# Altium schematic symbol library Other.SchLib: 33 symbols
Pins are listed as number, name and electrical type; pins without a type are passive.

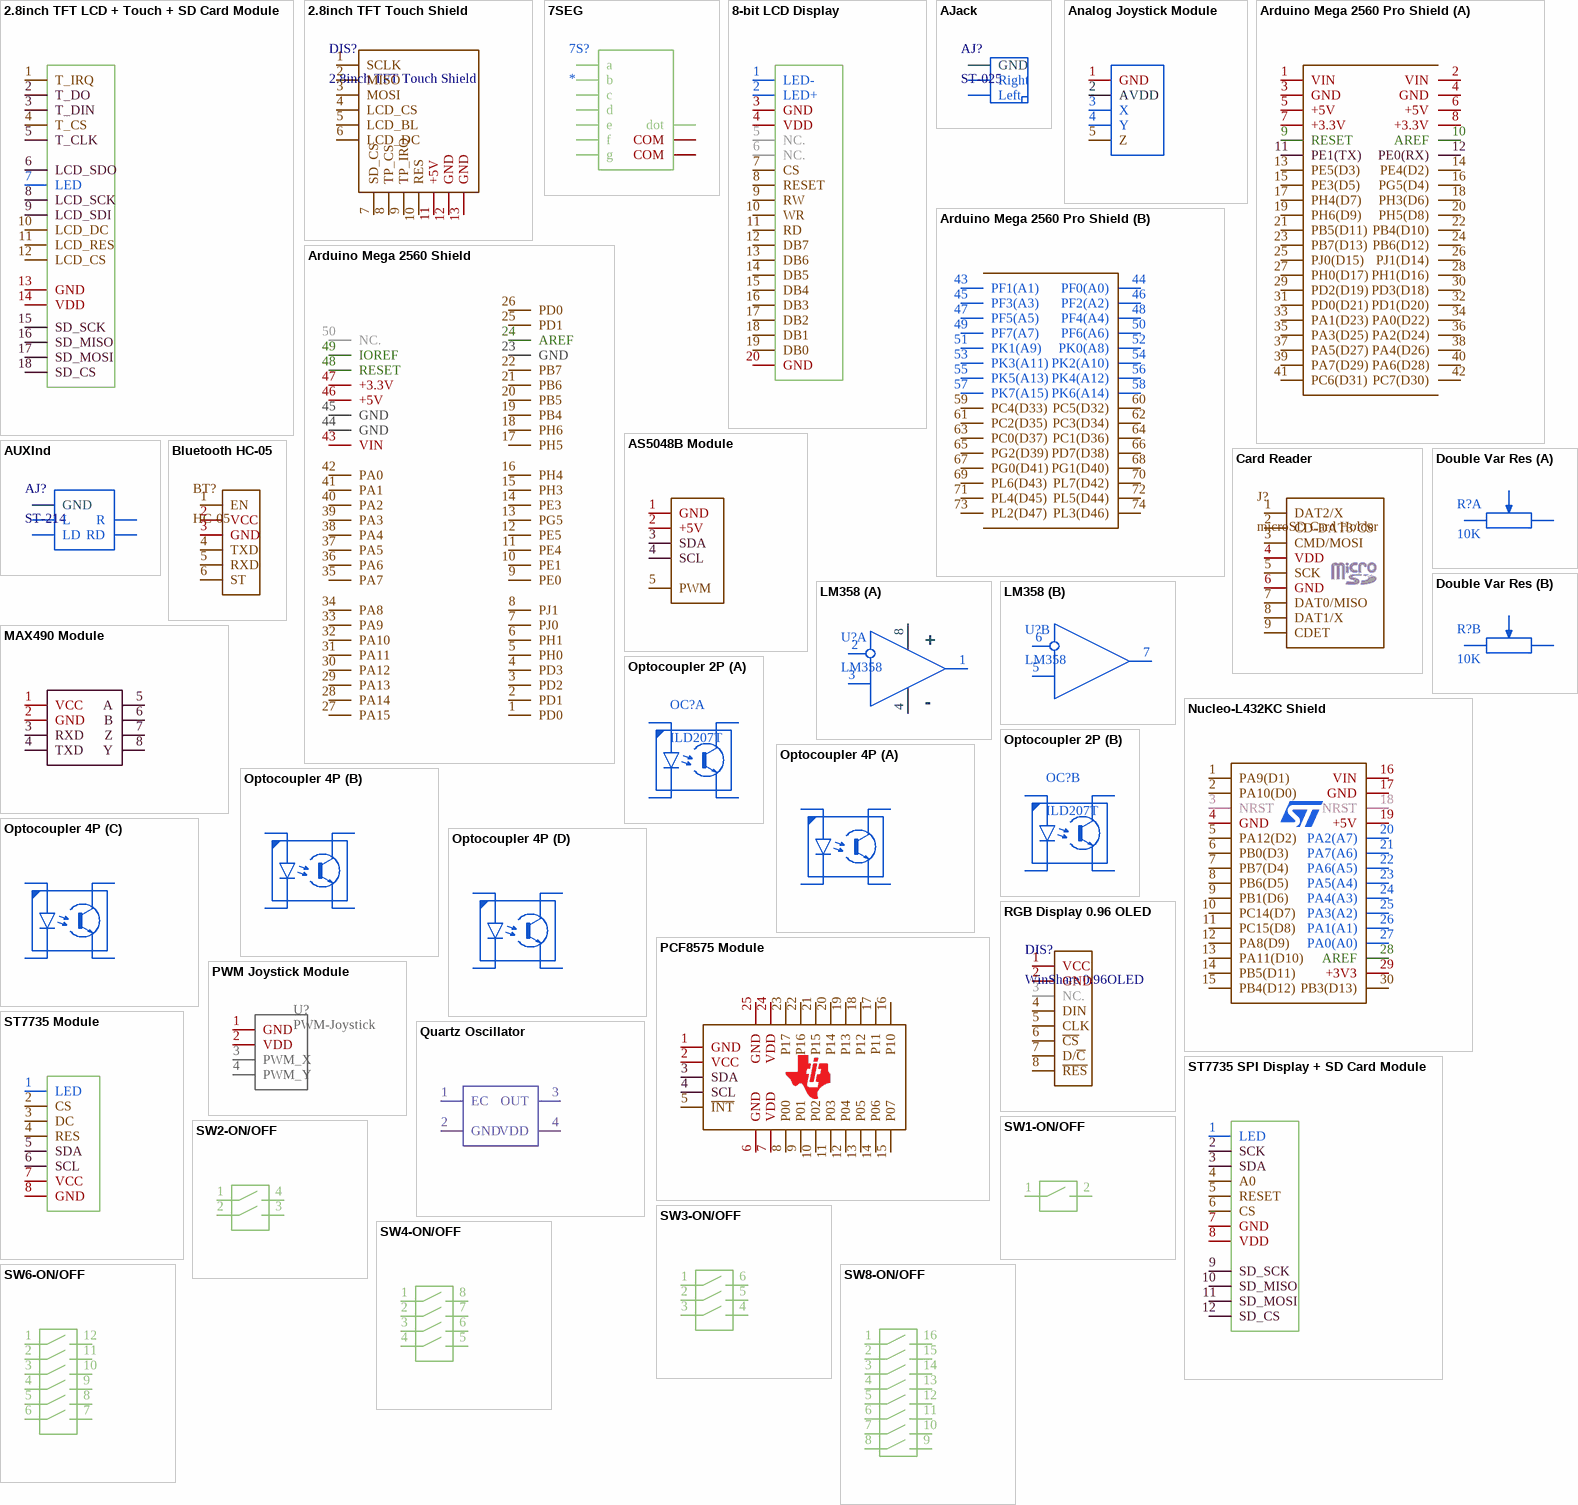
[diagram p0: symbols 2.8inch TFT LCD + Touch + SD Card Module to SW8-ON/OFF]

## 2.8inch TFT LCD + Touch + SD Card Module
designator U?, comment ILI9341
320x240 Display with touchscreen + SD Card Holder; Name: ILI9341
footprint 2.8INCH_LCD_TOUCH_SD_MODULE
pins: 1 T_IRQ, 2 T_DO, 3 T_DIN, 4 T_CS, 5 T_CLK, 6 LCD_SDO, 7 LED, 8 LCD_SCK, 9 LCD_SDI, 10 LCD_DC, 11 LCD_RES, 12 LCD_CS, 13 GND, 14 VDD, 15 SD_SCK, 16 SD_MISO, 17 SD_MOSI, 18 SD_CS

## 2.8inch TFT Touch Shield
designator DIS?
Manufacturer: WaveShare; Name: 2.8inch TFT Touch Shield
pins: 1 SCLK, 2 MISO, 3 MOSI, 4 LCD_CS, 5 LCD_BL, 6 LCD_DC, 7 SD_CS, 8 TP_CS, 9 TP_IRQ, 10 RES, 11 +5V, 12 GND, 13 GND

## 7SEG
designator 7S?
Name: *
footprint 7SEG-500X750MIL (Footprint not found)
pins: a, b, c, com COM, com COM, d, dot, e, f, g

## 8-bit LCD Display
designator DISPLAY, comment 128x160
320x240 LCD Display; Resolution: 128x160
footprint FPC-20-1
pins: 1 LED-, 2 LED+, 3 GND, 4 VDD, 5 NC., 6 NC., 7 CS, 8 RESET, 9 RW, 10 WR, 11 RD, 12 DB7, 13 DB6, 14 DB5, 15 DB4, 16 DB3, 17 DB2, 18 DB1, 19 DB0, 20 GND

## AJack
designator AJ?, comment ST-025
Name: ST-025
footprint ST-214
footprint ST-025
pins: 1 GND, 2 Right, 3 Left

## Analog Joystick Module
designator U?, comment 3D-Joystick
Name: 3D-Joystick
footprint JOY_AMPERKA
pins: 1 GND, 2 AVDD, 3 X, 4 Y, 5 Z

## Arduino Mega 2560 Pro Shield
designator J?, comment Arduino Mega 2560
Name: Arduino Mega 2560
footprint ARDUINO MEGA 2560 PRO F-SHIELD
footprint ARDUINO MEGA 2560 PRO M-SHIELD
part A pins: 1 VIN, 2 VIN, 3 GND, 4 GND, 5 +5V, 6 +5V, 7 +3.3V, 8 +3.3V, 9 RESET, 10 AREF, 11 PE1(TX), 12 PE0(RX), 13 PE5(D3), 14 PE4(D2), 15 PE3(D5), 16 PG5(D4), 17 PH4(D7), 18 PH3(D6), 19 PH6(D9), 20 PH5(D8), 21 PB5(D11), 22 PB4(D10), 23 PB7(D13), 24 PB6(D12), 25 PJ0(D15), 26 PJ1(D14), 27 PH0(D17), 28 PH1(D16), 29 PD2(D19), 30 PD3(D18), 31 PD0(D21), 32 PD1(D20), 33 PA1(D23), 34 PA0(D22), 35 PA3(D25), 36 PA2(D24), 37 PA5(D27), 38 PA4(D26), 39 PA7(D29), 40 PA6(D28), 41 PC6(D31), 42 PC7(D30)
part B pins: 43 PF1(A1), 44 PF0(A0), 45 PF3(A3), 46 PF2(A2), 47 PF5(A5), 48 PF4(A4), 49 PF7(A7), 50 PF6(A6), 51 PK1(A9), 52 PK0(A8), 53 PK3(A11), 54 PK2(A10), 55 PK5(A13), 56 PK4(A12), 57 PK7(A15), 58 PK6(A14), 59 PC4(D33), 60 PC5(D32), 61 PC2(D35), 62 PC3(D34), 63 PC0(D37), 64 PC1(D36), 65 PG2(D39), 66 PD7(D38), 67 PG0(D41), 68 PG1(D40), 69 PL6(D43), 70 PL7(D42), 71 PL4(D45), 72 PL5(D44), 73 PL2(D47), 74 PL3(D46)

## Arduino Mega 2560 Shield
designator CN?, comment Arduino Mega 2560
Name: Arduino Mega 2560
footprint ARDUINO MEGA F_Shield (ARDUINO MEGA 2560 Full Father Shield)
footprint ARDUINO MEGA M_Shield (ARDUINO MEGA 2560 Full Mother Shield)
pins: 1 PD0, 2 PD1, 3 PD2, 4 PD3, 5 PH0, 6 PH1, 7 PJ0, 8 PJ1, 9 PE0, 10 PE1, 11 PE4, 12 PE5, 13 PG5, 14 PE3, 15 PH3, 16 PH4, 17 PH5, 18 PH6, 19 PB4, 20 PB5, 21 PB6, 22 PB7, 23 GND, 24 AREF, 25 PD1, 26 PD0, 27 PA15, 28 PA14, 29 PA13, 30 PA12, 31 PA11, 32 PA10, 33 PA9, 34 PA8, 35 PA7, 36 PA6, 37 PA5, 38 PA4, 39 PA3, 40 PA2, 41 PA1, 42 PA0, 43 VIN, 44 GND, 45 GND, 46 +5V, 47 +3.3V, 48 RESET, 49 IOREF, 50 NC.

## AS5048B Module
designator U?, comment AS5048B
I2C/PWM Magnetic Rotary Encoder Module; Name: AS5048B
pins: 1 GND, 2 +5V, 3 SDA, 4 SCL, 5 PWM

## AUXInd
designator AJ?, comment ST-214
Name: ST-214
footprint ST-214
pins: 1 GND, 2 R, 3 L, 4 RD, 5 LD

## Bluetooth HC-05
designator BT?, comment HC-05
Name: HC-05
footprint 6X1M-D
pins: 1 EN, 2 VCC, 3 GND, 4 TXD, 5 RXD, 6 ST

## Card Reader
designator J?, comment microSD Card Holder
Name: microSD Card Holder
footprint SDCARD-MICRO
pins: 1 DAT2/X, 2 CD-DAT3/CS, 3 CMD/MOSI, 4 VDD, 5 SCK, 6 GND, 7 DAT0/MISO, 8 DAT1/X, 9 CDET

## Double Var Res
designator R?, comment 10K
Name: RK1411G; Value: 10K
footprint RK1411G
part A pins: 1 2, 2 1, 6 3
part B pins: 3 1, 4 2, 5 3

## LM358
designator U?
Name: LM358
footprint SOIC8
footprint DIP8
part A pins: 1, 2 -, 3, 4 -, 8 +
part B pins: 5, 6 -, 7

## MAX490 Module
designator U?, comment MAX490
Full-Duplex RS-485/RS-422 Transceiver; Name: MAX490
pins: 1 VCC, 2 GND, 3 RXD, 4 TXD, 5 A, 6 B, 7 Z, 8 Y

## Nucleo-L432KC Shield
designator J?, comment Nucleo-L432KC
Nucleo-32; Name: Nucleo-L432KC
pins: 1 PA9(D1), 2 PA10(D0), 3 NRST, 4 GND, 5 PA12(D2), 6 PB0(D3), 7 PB7(D4), 8 PB6(D5), 9 PB1(D6), 10 PC14(D7), 11 PC15(D8), 12 PA8(D9), 13 PA11(D10), 14 PB5(D11), 15 PB4(D12), 16 VIN, 17 GND, 18 NRST, 19 +5V, 20 PA2(A7), 21 PA7(A6), 22 PA6(A5), 23 PA5(A4), 24 PA4(A3), 25 PA3(A2), 26 PA1(A1), 27 PA0(A0), 28 AREF, 29 +3V3, 30 PB3(D13)

## Optocoupler 2P
designator OC?, comment ILD207T
Name: ILD207T
footprint SOIC8
footprint DIP8
footprint DIP8-WHITE
part A pins: 1, 2, 7 3, 8 4
part B pins: 3 1, 4 3, 5 3, 6 4

## Optocoupler 4P
designator OC?, comment PS2801-4
Name: PS2801-4
footprint SSOP16
footprint SOP16
footprint DIP16
footprint DIP16-WHITE
part A pins: 1, 2, 15 3, 16 4
part B pins: 3 1, 4 2, 13 3, 14 4
part C pins: 5 1, 6 2, 11 3, 12 4
part D pins: 7 1, 8 2, 9 3, 10 4

## PCF8575 Module
designator U?, comment PCF8575
Remote16-BIT I2C and SMBus I/O Expander; Name: PCF8575
pins: 1 GND, 2 VCC, 3 SDA, 4 SCL, 5 ~{INT}, 6 GND, 7 VDD, 8 P00, 9 P01, 10 P02, 11 P03, 12 P04, 13 P05, 14 P06, 15 P07, 16 P10, 17 P11, 18 P12, 19 P13, 20 P14, 21 P15, 22 P16, 23 P17, 24 VDD, 25 GND

## PWM Joystick Module
designator U?, comment PWM-Joystick
Name: PWM-Joystick
pins: 1 GND, 2 VDD, 3 PWM_X, 4 PWM_Y

## Quartz Oscillator
designator QO?, comment MCSJK-6NC2
Frequency: 48 MHz; Name: MCSJK-6NC2
footprint QUARTZ-7X5MM
pins: 1 EC, 2 GND, 3 OUT, 4 VDD

## RGB Display 0.96 OLED
designator DIS?, comment WinShare 0.96OLED
Name: WinShare 0.96OLED
footprint 8X1M
pins: 1 VCC, 2 GND, 3 NC., 4 DIN, 5 CLK, 6 ~{CS}, 7 D/~{C}, 8 ~{RES}

## ST7735 Module
designator U?, comment ST7735
Module LCD Display; Name: ST7735
footprint 8X1M
footprint 8X1F
pins: 1 LED, 2 CS, 3 DC, 4 RES, 5 SDA, 6 SCL, 7 VCC, 8 GND

## ST7735 SPI Display + SD Card Module
designator U?, comment ST7735
120x160 Display + SD Card Holder; Name: ST7735
footprint 8X1M
footprint 8X1F
pins: 1 LED, 2 SCK, 3 SDA, 4 A0, 5 RESET, 6 CS, 7 GND, 8 VDD, 9 SD_SCK, 10 SD_MISO, 11 SD_MOSI, 12 SD_CS

## SW1-ON/OFF
designator SW?, comment NDSR-01-V
Name: NDSR-01-V
footprint DIP_SW1
pins: 1 4, 2 5

## SW2-ON/OFF
designator SW?, comment NDSR-02-V
Name: NDSR-02-V
footprint DIP_SW2
pins: 1 4, 2 5, 3 6, 4 7

## SW3-ON/OFF
designator SW?, comment NDSR-03-V
Name: NDSR-03-V
footprint DIP_SW3
pins: 1 4, 2 5, 3 6, 4 7, 5, 6

## SW4-ON/OFF
designator SW?, comment NDSR-04-V
Name: NDSR-04-V
footprint DIP_SW4
pins: 1 4, 2 5, 3 6, 4 7, 5, 6, 7, 8

## SW6-ON/OFF
designator SW?, comment NDSR-06-V
Name: NDSR-06-V
footprint DIP_SW6
pins: 1 4, 2 5, 3 6, 4 7, 5, 6, 7, 8, 9, 10, 11, 12

## SW8-ON/OFF
designator SW?, comment NDSR-08-V
Name: NDSR-08-V
footprint DIP_SW8
pins: 1 4, 2 5, 3 6, 4 7, 5, 6, 7, 8, 9, 10, 11, 12, 13, 14, 15, 16

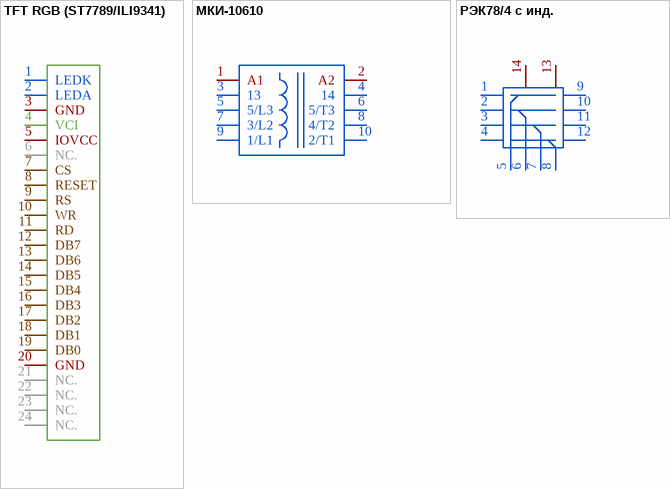
[diagram p1: symbols TFT RGB (ST7789/ILI9341) to РЭК78/4 с инд.]

## TFT RGB (ST7789/ILI9341)
designator DIS?, comment TFT Display
Name: TFT Display
footprint FPC-24
pins: 1 LEDK, 2 LEDA, 3 GND, 4 VCI, 5 IOVCC, 6 NC., 7 CS, 8 RESET, 9 RS, 10 WR, 11 RD, 12 DB7, 13 DB6, 14 DB5, 15 DB4, 16 DB3, 17 DB2, 18 DB1, 19 DB0, 20 GND, 21 NC., 22 NC., 23 NC., 24 NC.

## МКИ-10610
designator MS?
Name: МКИ-10610
pins: 1 A1, 2 A2, 3 13, 4 14, 5 5/L3, 6 5/T3, 7 3/L2, 8 4/T2, 9 1/L1, 10 2/T1

## РЭК78/4 с инд.
designator RE?
Name: РЭК78/4 с инд.
pins: 1, 2, 3, 4, 5, 6, 7, 8, 9, 10, 11, 12, 13, 14